# Altium footprint library RGY LEDs.PcbLib: 1 footprints
Each footprint in its own frame and in the unit in brackets; x right, y up, seen from the top. Pads: shape width x height; smd on the part's side, far side on the other; paste and mask are expansions set on the pad; w line width, h text height; cw(c..) or ccw(c..) is an arc to the next point about the centre after c.
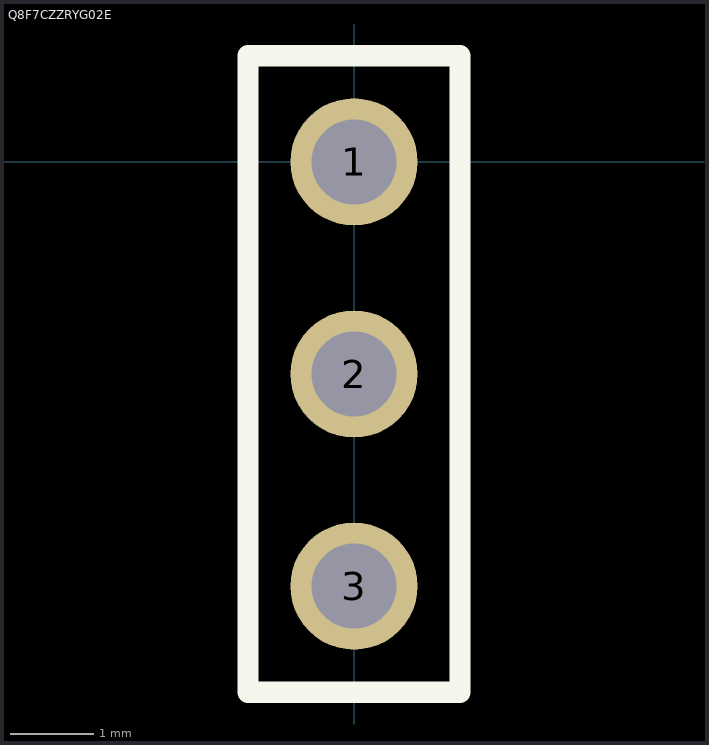
[diagram p0: the footprint, top view; thin cyan lines are the x and y axes]

## Q8F7CZZRYG02E [mil]
pads (3):
  round 60 hole 40 mask+0: 1(0,0) 2(0,-100) 3(0,-200)
Top Overlay:
  lines w10: -50,-250 -50,50 50,50 50,-250 -50,-250